# Altium footprint library 744237701.PcbLib: 1 footprints
Each footprint in its own frame and in the unit in brackets; x right, y up, seen from the top. Pads: shape width x height; smd on the part's side, far side on the other; paste and mask are expansions set on the pad; w line width, h text height; cw(c..) or ccw(c..) is an arc to the next point about the centre after c.
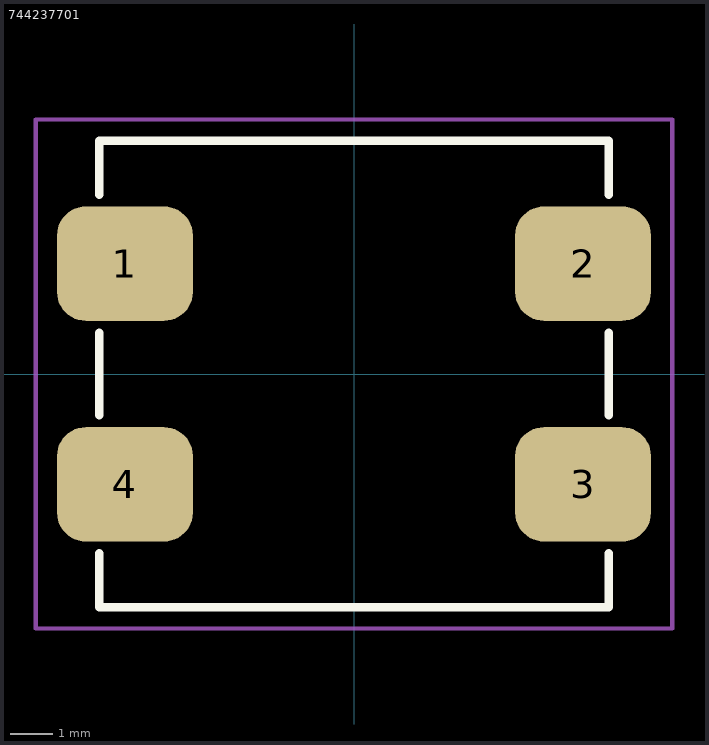
[diagram p0: the footprint, top view; thin cyan lines are the x and y axes]

## 744237701 [mm]
pads (4):
  rrect50% 3.2x2.7 smd: 1(-5.4,2.6) 2(5.4,2.6) 3(5.4,-2.6) 4(-5.4,-2.6)
Top Overlay:
  lines w0.2: -6,-4.225 -6,-5.5 6,-5.5 6,-4.225 ; -6,-0.975 -6,0.975 ; -6,4.225 -6,5.5 6,5.5 6,4.225 ; 6,-0.975 6,0.975
Top Courtyard:
  lines w0.1: -7.5,-6 -6,-6 7.5,-6 7.5,6 -7.5,6 -7.5,-6
3D body "744237701.stp": height 4.75, standoff -0.15, extent -6.15,-5.5 6.15,5.5